# EAGLE library part MAX5026 (library CYCFI_Power)
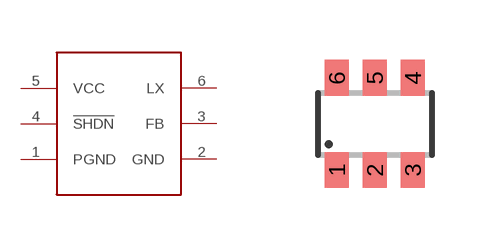
[diagram p1: symbol with the pads of SOT23-6; footprint SOT23-6]

Designator prefix -

## MAX5026  [SOT23-6]
1  PGND
2  GND
3  FB
4  !SHDN
5  VCC
6  LX

## Footprint SOT23-6 (pad centres in mm)
smd 0.6 x 0.9: 1 -0.95,-1.15; 2 0,-1.15; 3 0.95,-1.15; 4 0.95,1.15; 5 0,1.15; 6 -0.95,1.15